# EAGLE library part TLV751 (library LinnesLab-Power)
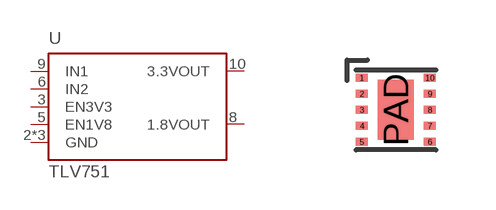
[diagram p14: symbol with the pads of 10-WSON; footprint 10-WSON]

Designator prefix U

## TLV751  [10-WSON]
2  GND
3  EN3V3
4  GND
5  EN1V8
6  IN2
8  1.8VOUT
9  IN1
10  3.3VOUT
PAD  GND

## Footprint 10-WSON (pad centres in mm)
smd 0.3 x 0.2: 1 -0.85,0.8; 2 -0.85,0.4; 3 -0.85,0; 4 -0.85,-0.4; 5 -0.85,-0.8; 6 0.85,-0.8; 7 0.85,-0.4; 8 0.85,0; 9 0.85,0.4; 10 0.85,0.8
smd 0.9 x 1.5: PAD 0,0